# Altium schematic symbol library AR211C333K4RTR1.SchLib: 1 symbol
Pins are listed as number, name and electrical type; pins without a type are passive.

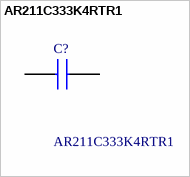
[diagram p0: symbol AR211C333K4RTR1]

## AR211C333K4RTR1
designator C?
Multilayer Ceramic Capacitors MLCC - Leaded 100V .033uF X7R Tol 10% AEC-Q200; Manufacturer_Name: Kyocera AVX; Geometry.Height: 5.08mm; Mouser Part Number: 581-AR211C333K4RTR1; Mouser Price/Stock: https://www.mouser.co.uk/ProductDetail/KYOCERA-AVX/AR211C333K4RTR1?qs=qjUENa6g21uDLL5O2lasFg%3D%3D; Manufacturer_Part_Number: AR211C333K4RTR1; Datasheet Link: https://datasheets.avx.com/AR-Series.pdf
footprint AR211C333K4RTR1
pins: 1, 2